# Altium schematic symbol library 430156043736.SchLib: 1 symbol
Pins are listed as number, name and electrical type; pins without a type are passive.

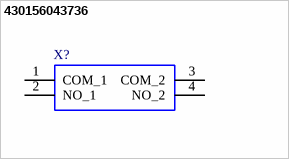
[diagram p0: symbol 430156043736]

## 430156043736
designator X?
Pink Tactile Tactile Switch, NO 50 mA 0.9mm Through Hole; Manufacturer_Name: Wurth Elektronik; Geometry.Height: 4.45mm; Mouser Part Number: 710-430156043736; Mouser Price/Stock: https://www.mouser.co.uk/ProductDetail/Wurth-Elektronik/430156043736?qs=wr8lucFkNMX8wnPArYa4oQ%3D%3D; Manufacturer_Part_Number: 430156043736; Datasheet Link: *
footprint 430156043736
pins: 1 COM_1, 2 NO_1, 3 COM_2, 4 NO_2